# EAGLE library part TMC236A-PA (library trinamic)
TRINAMIC TMC236 Microstep Driver for up to 1.5A Information given in this library is believed to be accurate and reliable. However no warranty is given for its correctness. Datasheet for TMC236 <http://www.trinamic.com/tmc/media/Downloads/integrated_circuits/Tmc236/TMC236_datasheet.pdf> Description Smart Power Microstepping PWM Motor Driver with protection, diagnostics and SPI Interface The TMC236 is a smart power microstepping driver for bipolar stepper motors. It provides an SPI™ interface as well as the classical analog / digital control. A full set of protection and diagnostic features makes this device very rugged. The integrated low-RDS-ON TrenchFET® power MOSFETs give an extremely high efficiency and allow driving of a high motor current of up to 1.5A per phase without cooling measures even at high environment temperatures. The small footprint and high efficiency make the device a perfect solution for embedded motion control and even for battery powered designs. To test existing designs, consisting of the stepper motor driver L9935, Trinamic provides a small replacement PCB including the more powerfull TMC236 driver IC. An application note (TMC236 to L9935 Adapter.pdf) is available for download. Specifications Main characteristics 2-phase bipolar stepper motor driver Short circuit protection integrated Overvoltage protection integrated Status flags for short circuit, open load, over temperature, temperature pre-warning, undervoltage Integrated 4 bit DACs allow up to 16 times microstepping via SPI, any resolution via analog control Mixed decay feature for smooth motor operation Slope control user programmable to reduce electromagnetic emissions Chopper frequency programmable via a single capacitor or external clock Current control allows cool motor and driver operation Internal open load detector Low power consumption via low RDS-ON power stage Standby and shutdown mode available Interface easy-to-use SPI (12-bit protocol) classic analog control Electrical data 7V to 34V motor supply voltage up to 1500mA coil current (peak) > 800mA at 105°C 3.3V or 5V operation for digital part Package PQFP-44 RoHS compliant packaging unit: tray with 160pcs.
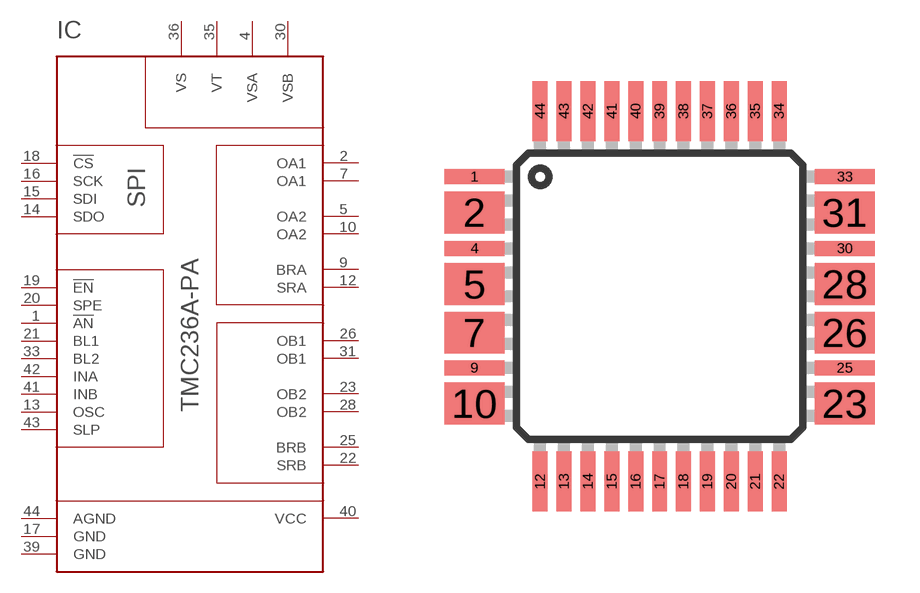
[diagram p0: symbol with the pads of PQFP44_WITH_PADS; footprint PQFP44_WITH_PADS]

Designator prefix IC

## TMC236A-PA  [PQFP44_WITH_PADS]
1  !AN  in
2  OA1  out
4  VSA  in
5  OA2  out
7  OA1  out
9  BRA  in
10  OA2  out
12  SRA  in
13  OSC  in
14  SDO  hiz
15  SDI  in
16  SCK  in
17  GND  in
18  !CS  in
19  !EN  in
20  SPE  in
21  BL1  in
22  SRB  in
23  OB2  out
25  BRB  in
26  OB1  out
28  OB2  out
30  VSB  in
31  OB1  out
33  BL2  in
35  VT  in
36  VS  in
39  GND  in
40  VCC  in
41  INB  in
42  INA  in
43  SLP  in
44  AGND  in

## Footprint PQFP44_WITH_PADS (pad centres in mm)
smd 2 x 0.5: 1 -6.327,4.254; 4 -6.327,1.854; 9 -6.327,-2.146; 25 6.073,-2.146; 30 6.073,1.854; 33 6.073,4.254
smd 2 x 1.4: 2 -6.327,3.06; 5 -6.327,0.66; 7 -6.327,-0.965; 10 -6.327,-3.34; 23 6.073,-3.34; 26 6.073,-0.965; 28 6.073,0.66; 31 6.073,3.06
smd 0.5 x 2: 12 -4.127,-5.946; 13 -3.327,-5.946; 14 -2.527,-5.946; 15 -1.727,-5.946; 16 -0.927,-5.946; 17 -0.127,-5.946; 18 0.673,-5.946; 19 1.473,-5.946; 20 2.273,-5.946; 21 3.073,-5.946; 22 3.873,-5.946; 34 3.873,6.454; 35 3.073,6.454; 36 2.273,6.454; 37 1.473,6.454; 38 0.673,6.454; 39 -0.127,6.454; 40 -0.927,6.454; 41 -1.727,6.454; 42 -2.527,6.454; 43 -3.327,6.454; 44 -4.127,6.454